# EAGLE library part DAC9881 (library shepherd)
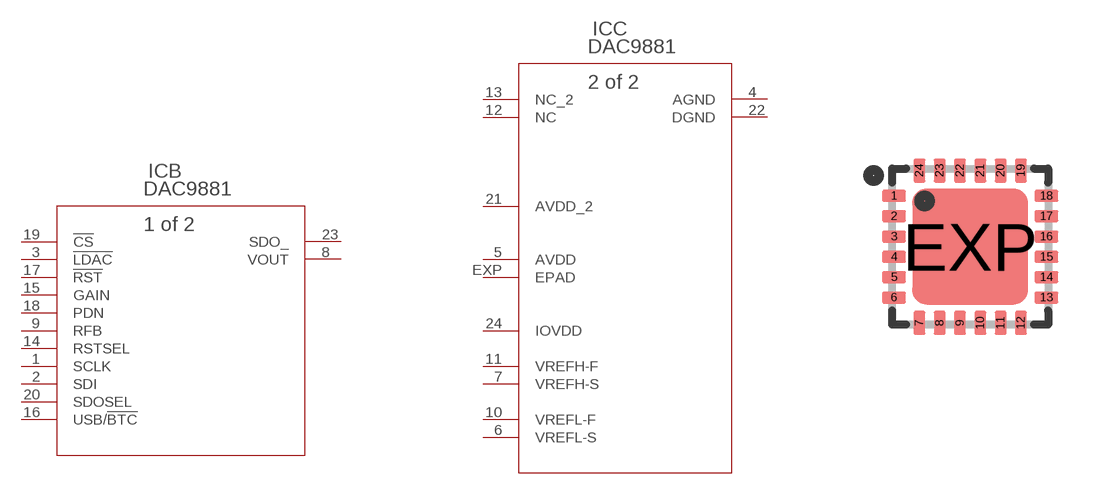
[diagram p2: symbol with the pads of QFN24; footprint QFN24]

Designator prefix IC; gates B=DAC9881_RGE_24 C=DAC9881_RGE_24_A

## DAC9881  [QFN24]
1  B:SCLK  in
2  B:SDI  in
3  B:!LDAC  in
4  C:AGND  pwr
5  C:AVDD  pwr
6  C:VREFL-S  in
7  C:VREFH-S  in
8  B:VOUT  out
9  B:RFB  in
10  C:VREFL-F  in
11  C:VREFH-F  in
12  C:NC  pas
13  C:NC_2  pas
14  B:RSTSEL  in
15  B:GAIN  in
16  B:USB/!BTC  in
17  B:!RST  in
18  B:PDN  in
19  B:!CS  in
20  B:SDOSEL  in
21  C:AVDD_2  pwr
22  C:DGND  pwr
23  B:SDO_  out
24  C:IOVDD  pwr
EXP  C:EPAD  pwr

## Footprint QFN24 (pad centres in mm)
QFN 4x4 mm Source: http://www.hittite.com/product_info/product_specs/dividersdetectors/hmc394lp4.pdf
smd 0.6 x 0.3: 1 -1.905,1.27; 2 -1.905,0.762; 3 -1.905,0.254; 4 -1.905,-0.254; 5 -1.905,-0.762; 6 -1.905,-1.27; 13 1.905,-1.27; 14 1.905,-0.762; 15 1.905,-0.254; 16 1.905,0.254; 17 1.905,0.762; 18 1.905,1.27
smd 0.3 x 0.6: 7 -1.27,-1.905; 8 -0.762,-1.905; 9 -0.254,-1.905; 10 0.254,-1.905; 11 0.762,-1.905; 12 1.27,-1.905; 19 1.27,1.905; 20 0.762,1.905; 21 0.254,1.905; 22 -0.254,1.905; 23 -0.762,1.905; 24 -1.27,1.905
smd 2.9 x 2.9: EXP 0,0